# Altium schematic symbol library LCD.SchLib: 2 symbols
Pins are listed as number, name and electrical type; pins without a type are passive.

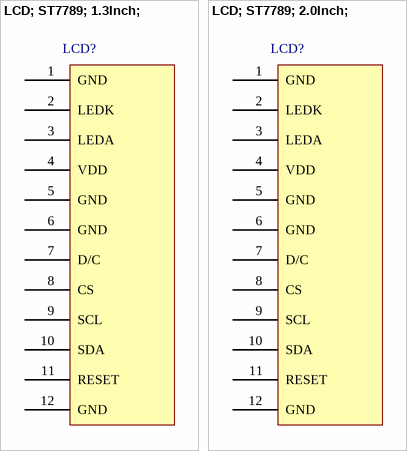
[diagram p0: symbols LCD; ST7789; 1.3Inch; to LCD; ST7789; 2.0Inch;]

## LCD; ST7789; 1.3Inch;
designator LCD?, comment LCD ST7789  (value not drawn)
footprint ST7789-240x240-1.3Inch
pins: 1 GND, 2 LEDK, 3 LEDA, 4 VDD, 5 GND, 6 GND, 7 D/C, 8 CS, 9 SCL, 10 SDA, 11 RESET, 12 GND

## LCD; ST7789; 2.0Inch;
designator LCD?, comment LCD ST7789  (value not drawn)
footprint ST7789-240X320-2.0Inch
pins: 1 GND, 2 LEDK, 3 LEDA, 4 VDD, 5 GND, 6 GND, 7 D/C, 8 CS, 9 SCL, 10 SDA, 11 RESET, 12 GND